# Altium integrated library Symbols.IntLib: 1 symbol
Pins are listed as number, name and electrical type; pins without a type are passive.

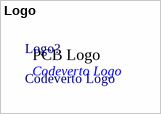
[diagram p0: symbol Logo]

## Logo
designator Logo?, comment Codeverto Logo
footprint Codeverto Logo (Codeverto Logo Mono)
text: PCB Logo